# EAGLE library part MCP2551-I_P (library UWAFT_Parts)
High Speed CAN Transceiver,MCP2551-I/P Microchip MCP2551-I/P, CAN Transceiver 1-channel ISO 11898, 8-Pin PDIP Source: Datasheet <http://www.mouser.com/ds/2/268/21667d-63675.pdf>
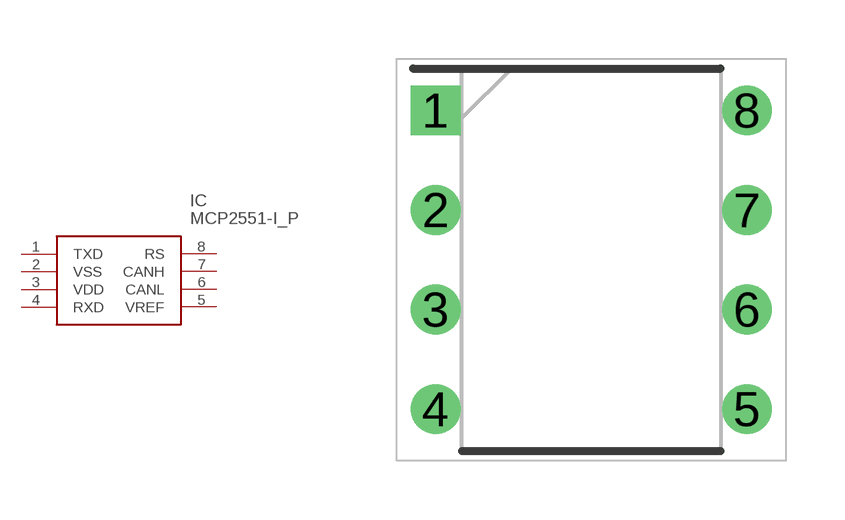
[diagram p1: symbol with the pads of DIP794W56P254L945H432Q8N; footprint DIP794W56P254L945H432Q8N]

Designator prefix IC

## MCP2551-I_P (ALLIED_NUMBER: 70045402; ALLIED_PRICE-STOCK: http://www.alliedelec.com/microchip-technology-inc-mcp2551-i-p/70045402/; ARROW_PART_NUMBER: MCP2551-I/P; ARROW_PRICE-STOCK: https://www.arrow.com/en/products/mcp2551-ip/microchip-technology; DESCRIPTION: High Speed CAN Transceiver,MCP2551-I/P Microchip MCP2551-I/P, CAN Transceiver 1-channel ISO 11898, 8-Pin PDIP; HEIGHT: 4.32mm; MANUFACTURER_NAME: Microchip; MANUFACTURER_PART_NUMBER: MCP2551-I/P; RS_PART_NUMBER: 2509530181; RS_PRICE-STOCK: http://uk.rs-online.com/web/p/products/2509530181)  [DIP794W56P254L945H432Q8N]
1  TXD
2  VSS  pwr
3  VDD  pwr
4  RXD
5  VREF  in
6  CANL
7  CANH
8  RS

## Footprint DIP794W56P254L945H432Q8N (pad centres in mm)
8-Lead PDIP 300mm
drill 0.76 pad 1.16 square: 1 -3.97,3.81
drill 0.76 pad 1.16: 2 -3.97,1.27; 3 -3.97,-1.27; 4 -3.97,-3.81; 5 3.97,-3.81; 6 3.97,-1.27; 7 3.97,1.27; 8 3.97,3.81